# Altium schematic symbol library SamacSys.SchLib: 7 symbols
Pins are listed as number, name and electrical type; pins without a type are passive.

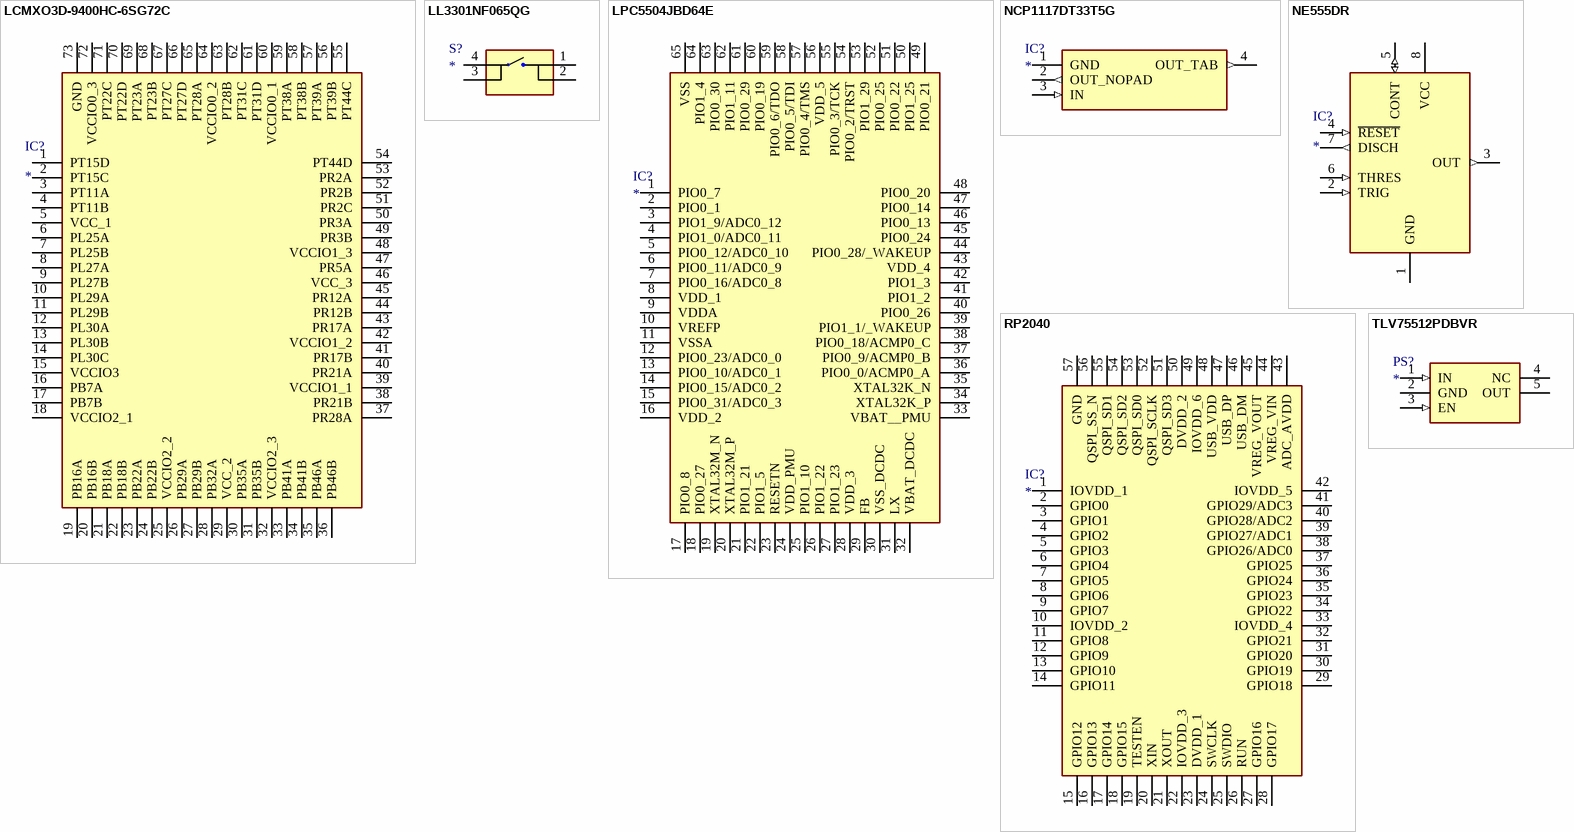
[diagram p0: symbols LCMXO3D-9400HC-6SG72C to TLV75512PDBVR]

## LCMXO3D-9400HC-6SG72C
designator IC?
Integrated Circuit; Manufacturer_Name: Lattice Semiconductor; Manufacturer_Part_Number: LCMXO3D-9400HC-6SG72C; Datasheet Link: http://www.latticesemi.com/Products/FPGAandCPLD/MachXO3D; Height: 0.9mm; Mouser Part Number: 842-O3D9400HC6SG72C; Mouser Price/Stock: https://www.mouser.co.uk/ProductDetail/Lattice/LCMXO3D-9400HC-6SG72C?qs=P1JMDcb91o5zlo%2FfseWNjQ%3D%3D
footprint QFN50P1000X1000X90-73N-D
pins: 1 PT15D, 2 PT15C, 3 PT11A, 4 PT11B, 5 VCC_1, 6 PL25A, 7 PL25B, 8 PL27A, 9 PL27B, 10 PL29A, 11 PL29B, 12 PL30A, 13 PL30B, 14 PL30C, 15 VCCIO3, 16 PB7A, 17 PB7B, 18 VCCIO2_1, 19 PB16A, 20 PB16B, 21 PB18A, 22 PB18B, 23 PB22A, 24 PB22B, 25 VCCIO2_2, 26 PB29A, 27 PB29B, 28 PB32A, 29 VCC_2, 30 PB35A, 31 PB35B, 32 VCCIO2_3, 33 PB41A, 34 PB41B, 35 PB46A, 36 PB46B, 37 PR28A, 38 PR21B, 39 VCCIO1_1, 40 PR21A, 41 PR17B, 42 VCCIO1_2, 43 PR17A, 44 PR12B, 45 PR12A, 46 VCC_3, 47 PR5A, 48 VCCIO1_3, 49 PR3B, 50 PR3A, 51 PR2C, 52 PR2B, 53 PR2A, 54 PT44D, 55 PT44C, 56 PT39B, 57 PT39A, 58 PT38B, 59 PT38A, 60 VCCIO0_1, 61 PT31D, 62 PT31C, 63 PT28B, 64 VCCIO0_2, 65 PT28A, 66 PT27D, 67 PT27C, 68 PT23B, 69 PT23A, 70 PT22D, 71 PT22C, 72 VCCIO0_3, 73 GND

## LL3301NF065QG
designator S?
Switch; Manufacturer_Name: E-Switch; Manufacturer_Part_Number: LL3301NF065QG; Datasheet Link: http://spec_sheets.e-switch.com/specs/P090002.pdf; Height: 4mm; Mouser Part Number: 612-LL3301NF065QG; Mouser Price/Stock: https://www.mouser.co.uk/ProductDetail/E-Switch/LL3301NF065QG/?qs=QtyuwXswaQiWhwgY68YTTw%3D%3D
footprint LL3301NF065QG
pins: 1, 2, 3, 4

## LPC5504JBD64E
designator IC?
Integrated Circuit; Manufacturer_Name: NXP; Manufacturer_Part_Number: LPC5504JBD64E; Datasheet Link: https://www.nxp.com/docs/en/data-sheet/LPC55S0x_LPC550x_DS.pdf; Height: 1.2mm
footprint QFP50P1200X1200X120-65N
pins: 1 PIO0_7, 2 PIO0_1, 3 PIO1_9/ADC0_12, 4 PIO1_0/ADC0_11, 5 PIO0_12/ADC0_10, 6 PIO0_11/ADC0_9, 7 PIO0_16/ADC0_8, 8 VDD_1, 9 VDDA, 10 VREFP, 11 VSSA, 12 PIO0_23/ADC0_0, 13 PIO0_10/ADC0_1, 14 PIO0_15/ADC0_2, 15 PIO0_31/ADC0_3, 16 VDD_2, 17 PIO0_8, 18 PIO0_27, 19 XTAL32M_N, 20 XTAL32M_P, 21 PIO1_21, 22 PIO1_5, 23 RESETN, 24 VDD_PMU, 25 PIO1_10, 26 PIO1_22, 27 PIO1_23, 28 VDD_3, 29 FB, 30 VSS_DCDC, 31 LX, 32 VBAT_DCDC, 33 VBAT__PMU, 34 XTAL32K_P, 35 XTAL32K_N, 36 PIO0_0/ACMP0_A, 37 PIO0_9/ACMP0_B, 38 PIO0_18/ACMP0_C, 39 PIO1_1/_WAKEUP, 40 PIO0_26, 41 PIO1_2, 42 PIO1_3, 43 VDD_4, 44 PIO0_28/_WAKEUP, 45 PIO0_24, 46 PIO0_13, 47 PIO0_14, 48 PIO0_20, 49 PIO0_21, 50 PIO1_25, 51 PIO0_22, 52 PIO0_25, 53 PIO1_29, 54 PIO0_2/TRST, 55 PIO0_3/TCK, 56 VDD_5, 57 PIO0_4/TMS, 58 PIO0_5/TDI, 59 PIO0_6/TDO, 60 PIO0_19, 61 PIO0_29, 62 PIO1_11, 63 PIO0_30, 64 PIO1_4, 65 VSS

## NCP1117DT33T5G
designator IC?
Integrated Circuit; Manufacturer_Name: ON Semiconductor; Manufacturer_Part_Number: NCP1117DT33T5G; Datasheet Link: http://www.onsemi.com/pub/Collateral/NCP1117-D.PDF; Height: 2.38mm; Mouser Part Number: 863-NCP1117DT33T5G; Mouser Price/Stock: https://www.mouser.co.uk/ProductDetail/ON-Semiconductor/NCP1117DT33T5G/?qs=Gev%252BmEvV0ibY9yFNc3ZYyw%3D%3D; Arrow Part Number: NCP1117DT33T5G; Arrow Price/Stock: https://www.arrow.com/en/products/ncp1117dt33t5g/on-semiconductor
footprint TO229P990X238-4N
pins: 1 GND (power), 2 OUT_NOPAD (out), 3 IN (in), 4 OUT_TAB (out)

## NE555DR
designator IC?
Integrated Circuit; Manufacturer_Name: Texas Instruments; Manufacturer_Part_Number: NE555DR; Datasheet Link: http://www.ti.com/lit/ds/symlink/ne555.pdf; Height: 1.75mm; Mouser Part Number: 595-NE555DR; Mouser Price/Stock: https://www.mouser.com/Search/Refine.aspx?Keyword=595-NE555DR; RS Part Number: 1218414; RS Price/Stock: http://uk.rs-online.com/web/p/products/1218414
footprint SOIC127P600X175-8N
pins: 1 GND (power), 2 TRIG (in), 3 OUT (out), 4 ~{RESET} (in), 5 CONT (io), 6 THRES (in), 7 DISCH (out), 8 VCC (power)

## RP2040
designator IC?
Integrated Circuit; Manufacturer_Name: RASPBERRY-PI; Manufacturer_Part_Number: RP2040; Description: Microcontroller in QFN Package; Datasheet Link: https://datasheets.raspberrypi.org/rp2040/rp2040-datasheet.pdf; Height: 0.9mm
footprint QFN40P700X700X90-57N-D
pins: 1 IOVDD_1, 2 GPIO0, 3 GPIO1, 4 GPIO2, 5 GPIO3, 6 GPIO4, 7 GPIO5, 8 GPIO6, 9 GPIO7, 10 IOVDD_2, 11 GPIO8, 12 GPIO9, 13 GPIO10, 14 GPIO11, 15 GPIO12, 16 GPIO13, 17 GPIO14, 18 GPIO15, 19 TESTEN, 20 XIN, 21 XOUT, 22 IOVDD_3, 23 DVDD_1, 24 SWCLK, 25 SWDIO, 26 RUN, 27 GPIO16, 28 GPIO17, 29 GPIO18, 30 GPIO19, 31 GPIO20, 32 GPIO21, 33 IOVDD_4, 34 GPIO22, 35 GPIO23, 36 GPIO24, 37 GPIO25, 38 GPIO26/ADC0, 39 GPIO27/ADC1, 40 GPIO28/ADC2, 41 GPIO29/ADC3, 42 IOVDD_5, 43 ADC_AVDD, 44 VREG_VIN, 45 VREG_VOUT, 46 USB_DM, 47 USB_DP, 48 USB_VDD, 49 IOVDD_6, 50 DVDD_2, 51 QSPI_SD3, 52 QSPI_SCLK, 53 QSPI_SD0, 54 QSPI_SD2, 55 QSPI_SD1, 56 QSPI_SS_N, 57 GND

## TLV75512PDBVR
designator PS?
Power Supply; Manufacturer_Name: Texas Instruments; Manufacturer_Part_Number: TLV75512PDBVR; Datasheet Link: http://www.ti.com/lit/gpn/tlv755p; Height: 1.45mm; Mouser Part Number: 595-TLV75512PDBVR; Mouser Price/Stock: https://www.mouser.co.uk/ProductDetail/Texas-Instruments/TLV75512PDBVR/?qs=55YtniHzbhBztDKoQO7Odg%3D%3D; Arrow Part Number: TLV75512PDBVR; Arrow Price/Stock: https://www.arrow.com/en/products/tlv75512pdbvr/texas-instruments
footprint SOT95P280X145-5N
pins: 1 IN (in), 2 GND (power), 3 EN (in), 4 NC, 5 OUT (power)